# Altium integrated library LTC6993CS6-1#TRMPBF.IntLib: 1 symbol
Pins are listed as number, name and electrical type; pins without a type are passive.

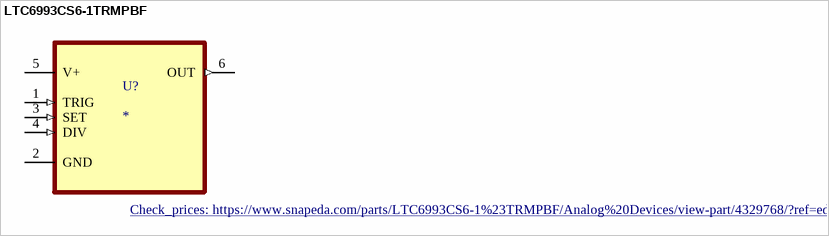
[diagram p0: symbol LTC6993CS6-1TRMPBF]

## LTC6993CS6-1TRMPBF
designator U?
Monostable Multivibrator 11ns TSOT-23-6; MF: Analog Devices; MP: LTC6993CS6-1#TRMPBF; Value: *; Purchase-URL: https://pricing.snapeda.com/search/part/LTC6993CS6-1#TRMPBF/?ref=eda; Package: SOT-23-6 Analog Devices; Availability: Warning; SnapEDA_Link: https://www.snapeda.com/parts/LTC6993CS6-1%23TRMPBF/Analog%20Devices/view-part/4329768/?ref=snap; Price: None; Check_prices: https://www.snapeda.com/parts/LTC6993CS6-1%23TRMPBF/Analog%20Devices/view-part/4329768/?ref=eda
footprint SOT95P280X100-6N
pins: 1 TRIG (in), 2 GND, 3 SET (in), 4 DIV (in), 5 V+ (power), 6 OUT (out)